# Altium footprint library 23-Sensors.PcbLib: 12 footprints
Each footprint in its own frame and in the unit in brackets; x right, y up, seen from the top. Pads: shape width x height; smd on the part's side, far side on the other; paste and mask are expansions set on the pad; w line width, h text height; cw(c..) or ccw(c..) is an arc to the next point about the centre after c.
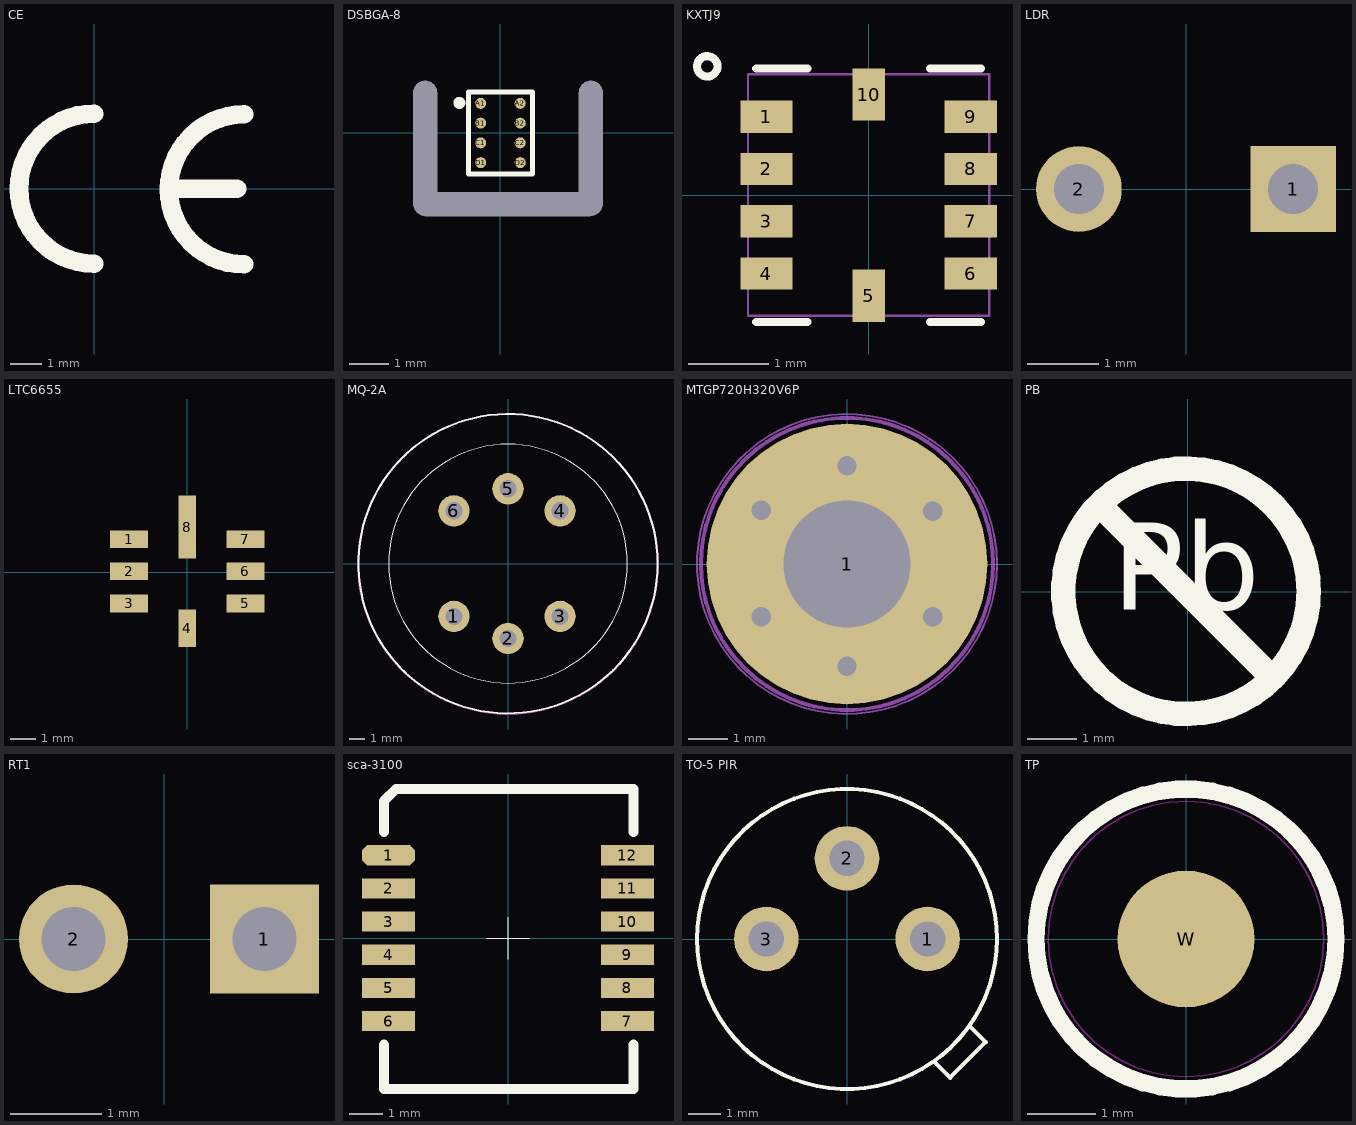
[diagram p0: the footprints below, top view; thin cyan lines are the x and y axes]

## CE [mm]
Top Overlay:
  lines w0.6: 0,-2.413 cw(c0,0) 0,2.413 ; 2.53,0 4.6,0 ; 4.826,-2.438 cw(c4.826,-0.025) 4.826,2.388
3D body "ce.stp": height 0.02, standoff 0, extent -2.725,-2.725 4.82,2.725

## DSBGA-8 [mm]
height 5.08
pads (11):
  round 0.28 smd mask+0.07: A1(-0.5,0.75) A2(0.5,0.75) B1(-0.5,0.25) B2(0.5,0.25) C1(-0.5,-0.25) C2(0.5,-0.25) D1(-0.5,-0.75) D2(0.5,-0.75)
  round 0 hole 0.6 slot 3.4 at 90 deg mask+0: ""(-1.905,-0.381) ""(2.286,-0.381)
  round 0 hole 0.6 slot 4.7 at 0 deg mask+0: ""(0.178,-1.803)
Top Overlay:
  circle w0.254: c-1.041,0.762 r0.025
  lines w0.127: -0.813,-1.041 -0.813,1.041 0.813,1.041 0.813,-1.041 -0.813,-1.041
Keep-Out Layer:
  lines w0.6: -1.905,1.016 -1.905,-1.803 2.286,-1.803 2.286,1.016
Mechanical 1:
  lines w0.6: -1.905,1.016 -1.905,-1.803 2.286,-1.803 2.286,1.016
3D body "dsbga-8.stp": height 0.88, standoff 0, extent -0.8,-1 0.8,1

## KXTJ9 [mm]
height 13.69
pads (10):
  rect 0.65x0.4 smd: 1(-1.27,0.975)
  rect 0.65x0.4 smd mask+0.07: 2(-1.27,0.325) 3(-1.27,-0.325) 4(-1.27,-0.975) 6(1.27,-0.975) 7(1.27,-0.325) 8(1.27,0.325) 9(1.27,0.975)
  rect 0.4x0.65 smd mask+0.07: 5(0,-1.25) 10(0,1.25)
Top Overlay:
  circle w0.1: c-2.007,1.6 r0.127
  lines w0.1: -1.397,-1.575 -0.762,-1.575 ; -1.397,1.575 -0.762,1.575 ; 0.762,-1.575 1.397,-1.575 ; 0.762,1.575 1.397,1.575
Mechanical 15:
  lines w0.03: -1.5,-1.5 1.5,-1.5 1.5,1.5 -1.5,1.5 -1.5,-1.5
3D body "0_65-0_4.stp": height 0.01, standoff 0, extent -0.2,-1.575 0.2,-0.925
3D body "0_65-0_4.stp": height 0.01, standoff 0, extent -0.2,0.925 0.2,1.575
3D body "0_65-0_4.stp": height 0.01, standoff 0, extent -1.595,0.775 -0.945,1.175
3D body "0_65-0_4.stp": height 0.01, standoff 0, extent -1.595,0.125 -0.945,0.525
3D body "0_65-0_4.stp": height 0.01, standoff 0, extent -1.595,-0.525 -0.945,-0.125
3D body "0_65-0_4.stp": height 0.01, standoff 0, extent -1.595,-1.175 -0.945,-0.775
3D body "0_65-0_4.stp": height 0.01, standoff 0, extent 0.945,-1.175 1.595,-0.775
3D body "0_65-0_4.stp": height 0.01, standoff 0, extent 0.945,-0.525 1.595,-0.125
3D body "0_65-0_4.stp": height 0.01, standoff 0, extent 0.945,0.125 1.595,0.525
3D body "0_65-0_4.stp": height 0.01, standoff 0, extent 0.945,0.775 1.595,1.175
3D body "kxtj9.stp": height 0.91, standoff 0, extent -1.5,-1.5 1.5,1.5

## LDR [mm]
height 13.69
pads (2):
  rect 1.2x1.2 hole 0.7 mask+0.051: 1(1.5,0)
  round 1.2 hole 0.7 mask+0.051: 2(-1.5,0)
3D body "ldr-5mm.stp": height 7.81, standoff -2.1, extent -2.5,-2.25 2.5,2.25

## LTC6655 [mm]
pads (8):
  rect 1.5x0.7 smd mask+0.07: 1(-2.3,1.31) 2(-2.3,0.04) 3(-2.3,-1.23) 5(2.3,-1.23) 6(2.3,0.04) 7(2.3,1.31)
  rect 0.7x1.5 smd mask+0.07: 4(0,-2.21)
  rect 0.7x2.5 smd mask+0.051: 8(0,1.79)
Top Overlay:
3D body "0_7-1-sot-23.stp": height 0.02, standoff 0, extent -0.35,2.04 0.35,3.04
3D body "0_7-1-sot-23.stp": height 0.02, standoff 0, extent -3.065,0.971 -2.065,1.671
3D body "0_7-1-sot-23.stp": height 0.02, standoff 0, extent -3.053,-0.299 -2.053,0.401
3D body "0_7-1-sot-23.stp": height 0.02, standoff 0, extent -3.053,-1.582 -2.053,-0.882
3D body "0_7-1-sot-23.stp": height 0.02, standoff 0, extent -0.35,-2.989 0.35,-1.989
3D body "0_7-1-sot-23.stp": height 0.02, standoff 0, extent 2.053,-1.595 3.053,-0.895
3D body "0_7-1-sot-23.stp": height 0.02, standoff 0, extent 2.053,-0.299 3.053,0.401
3D body "0_7-1-sot-23.stp": height 0.02, standoff 0, extent 2.091,0.958 3.091,1.658
3D body "lcc_5x5x1_95-p8.stp": height 1.93, standoff 0, extent -2.5,-2.5 2.5,2.5

## MQ-2A [mm]
height 13.69
pads (6):
  round 2 hole 1.1: 1(-3.429,-3.35) 2(0,-4.75) 3(3.302,-3.35) 4(3.302,3.35) 5(0,4.75) 6(-3.429,3.35)
Top Overlay:
  circle w0.127: c0,0 r9.5
  circle w0.02: c0,0 r7.58
Mechanical 15:
  circle w0.127: c0,-0.025 r9.518
3D body "mq-2a.stp": height 13.18, standoff -3.5, extent -9.8,-9.8 9.8,9.8

## MTGP720H320V6P [mm]
pads (1):
  round 7.2 hole 3.25: 1(0,0)
via 2.2,-1.35 diameter 1 hole 0.5
via 0,-2.625 diameter 1 hole 0.5
via 2.2,1.35 diameter 1 hole 0.5
via 0,2.525 diameter 1 hole 0.5
via -2.2,1.375 diameter 1 hole 0.5
via -2.2,-1.35 diameter 1 hole 0.5
Mechanical 8:
  circle w0.1: c0,0 r3.75
  circle w0.1: c0,0 r2.6
  lines w0.1: -2.657,1.625 -2.224,1.375 ; -2.632,-1.6 -2.199,-1.35 ; -2.474,0.942 -2.224,1.375 ; -2.449,-0.917 -2.199,-1.35 ; -1.974,1.808 -2.224,1.375 ; -1.949,-1.783 -2.199,-1.35 ; -1.791,1.125 -2.224,1.375 ; -1.766,-1.1 -2.199,-1.35 ; -0.5,-2.625 0,-2.625 ; -0.5,0 0,0 ; -0.5,2.525 0,2.525 ; 0,-3.125 0,-2.625 ; 0,-2.125 0,-2.625 ; 0,-0.5 0,0 ; 0,0.5 0,0 ; 0,2.025 0,2.525 ; 0,3.025 0,2.525 ; 0.5,-2.625 0,-2.625 ; 0.5,0 0,0 ; 0.5,2.525 0,2.525 ; 1.766,-1.1 2.199,-1.35 ; 1.766,1.1 2.199,1.35 ; 1.949,-1.783 2.199,-1.35 ; 1.949,1.783 2.199,1.35 ; 2.449,-0.917 2.199,-1.35 ; 2.449,0.917 2.199,1.35 ; 2.632,-1.6 2.199,-1.35 ; 2.632,1.6 2.199,1.35
Mechanical 14:
  circle w0.1: c0,0 r3.75
Mechanical 15:
  circle w0.05: c0,0 r3.85
3D body "mtgp720h320v6p.stp": height 0.1, standoff -1.75, extent -3.627,-3.627 3.628,3.628

## PB [mm]
Top Overlay:
  circle w0.5: c-0.031,0.013 r2.5
  lines w0.5: -1.737,1.719 1.675,-1.693
  text "Pb" at -1.536,-0.948 h3.05
3D body "pb.stp": height 0.02, standoff 0, extent -2.725,-2.725 2.725,2.725

## RT1 [mm]
height 13.69
pads (2):
  rect 1.2x1.2 hole 0.7 mask+0.051: 1(1.1,0)
  round 1.2 hole 0.7 mask+0.051: 2(-1,0)
3D body "rt1.stp": height 6, standoff -1.59, extent -0.75,-0.75 0.75,0.75

## sca-3100 [mm] "JSL"
height 4.45
pads (12):
  oct 1.6x0.61 smd: 1(-3.6,2.5)
  rect 1.6x0.61 smd: 2(-3.6,1.5) 3(-3.6,0.5) 4(-3.6,-0.5) 5(-3.6,-1.5) 6(-3.6,-2.5) 7(3.6,-2.5) 8(3.6,-1.5) 9(3.6,-0.5) 10(3.6,0.5) 11(3.6,1.5) 12(3.6,2.5)
Top Overlay:
  lines w0.025: -0.635,0 0.635,0 ; 0,-0.635 0,0.635
  lines w0.3: -3.734,-3.2 -3.734,-4.547 3.785,-4.547 3.785,-3.2 ; -3.734,3.2 -3.734,4.14 -3.378,4.496 3.785,4.496 3.785,3.2
3D body "sca2120-d07.stp": height 3.2, standoff 0, extent -3.815,-4.3 3.785,4.3

## TO-5 PIR [mm]
height 13.69
pads (3):
  round 2 hole 1.1: 1(2.5,0) 2(0,2.5) 3(-2.5,0)
Top Overlay:
  circle w0.127: c0,0 r4.65
  lines w0.127: 2.7,-3.8 3.2,-4.3 4.3,-3.2 3.8,-2.7
3D body "pir-to-5.stp": height 10.5, standoff -3, extent -4.55,-4.549 4.55,4.549

## TP [mm]
height 11.7
pads (1):
  round 2 smd mask+1: W(0,0)
Top Overlay:
  circle w0.254: c0,0 r2.195
Keep-Out Layer:
  circle w0.025: c0,0 r2.017
3D body "1_016-1_016-3_tp.stp": height 0.02, standoff 0, extent -1.5,-1.5 1.5,1.5